# Altium footprint library Mounting-Hole-Altium.PcbLib: 1 footprints
Each footprint in its own frame and in the unit in brackets; x right, y up, seen from the top. Pads: shape width x height; smd on the part's side, far side on the other; paste and mask are expansions set on the pad; w line width, h text height; cw(c..) or ccw(c..) is an arc to the next point about the centre after c.
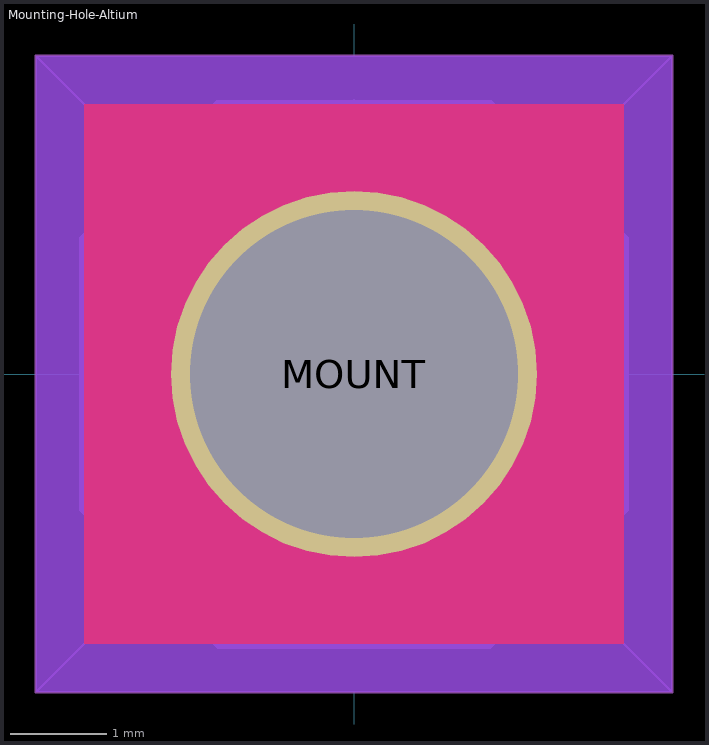
[diagram p0: the footprint, top view; thin cyan lines are the x and y axes]

## Mounting-Hole-Altium [mm] "Mounting Hole, Altium, 3.8mm pad, 3.4mm plated hole"
height 3.5
pads (1):
  round 3.8 hole 3.4 mask+0.038: MOUNT(0,0)
Top Layer:
  rectangle: -2.8,-2.801 2.8,2.799
Top Layer keep-out:
  rectangle: -3.3,-3.299 3.3,3.301
Bottom Layer:
  rectangle: -2.8,-2.801 2.8,2.799
Bottom Layer keep-out:
  rectangle: -3.3,-3.299 3.3,3.301
Top Solder:
  rectangle: -3.2,-3.199 3.2,3.201
Bottom Solder:
  rectangle: -3,-3.001 3,2.999
Mechanical 2:
  lines w0.025: -3.3,-3.3 -3.3,3.3 ; -3.3,-3.3 3.3,-3.3 ; -3.3,-3.3 0,0 ; -3.3,3.3 0,0 ; -3.3,3.3 3.3,3.3 ; 0,0 3.3,3.3 ; 0,0 3.3,-3.3 ; 3.3,-3.3 3.3,3.3
Mechanical 7:
  region: 0.5,0.8 0.8,0.5 1.366,1.066 1.066,1.366
  region: -0.8,0.5 -0.5,0.8 -1.066,1.366 -1.366,1.066
  region: -0.5,-0.801 -0.8,-0.501 -1.366,-1.066 -1.066,-1.366
  region: 0.801,-0.5 0.501,-0.8 1.066,-1.366 1.366,-1.066
Mechanical 8:
  lines w0.1: -2.8,-1.4 -1.4,-2.8 1.4,-2.8 2.8,-1.4 2.8,1.4 1.4,2.8 -1.4,2.8 -2.8,1.4 -2.8,-1.4